# Altium integrated library SAMTEC-SSM-112-X-SV.IntLib: 1 symbol
Pins are listed as number, name and electrical type; pins without a type are passive.

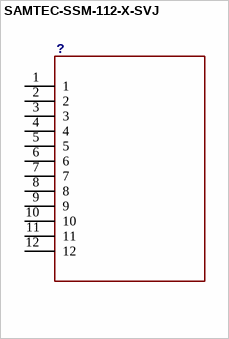
[diagram p0: symbol SAMTEC-SSM-112-X-SVJ]

## SAMTEC-SSM-112-X-SVJ
designator ?
footprint SAMTEC-SSM-112-X-SV
pins: 1, 2, 3, 4, 5, 6, 7, 8, 9, 10, 11, 12